# Altium footprint library GDTs_SMD.PcbLib: 1 footprints
Each footprint in its own frame and in the unit in brackets; x right, y up, seen from the top. Pads: shape width x height; smd on the part's side, far side on the other; paste and mask are expansions set on the pad; w line width, h text height; cw(c..) or ccw(c..) is an arc to the next point about the centre after c.
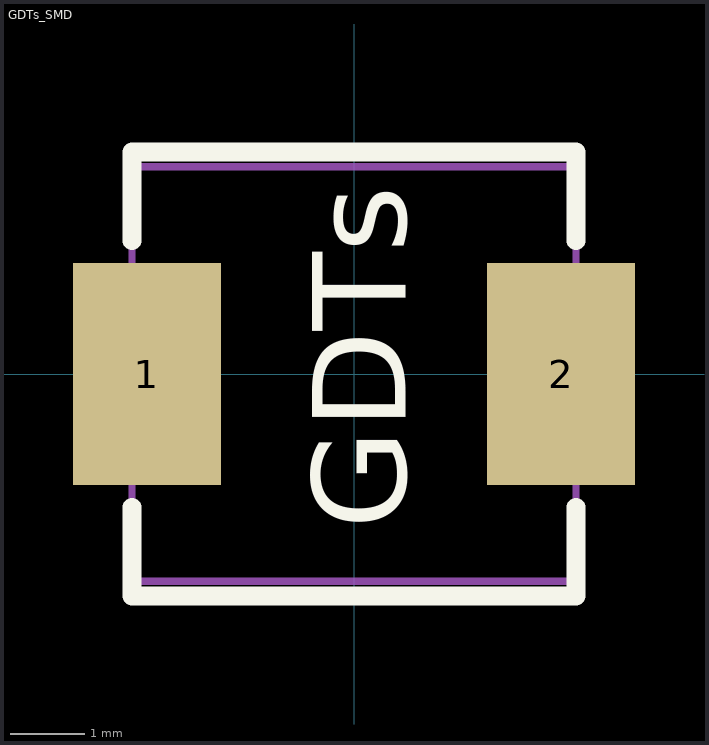
[diagram p0: the footprint, top view; thin cyan lines are the x and y axes]

## GDTs_SMD [mm]
pads (2):
  rect 2x3 smd: 1(-2.8,0) 2(2.8,0)
Top Overlay:
  lines w0.254: -3,-1.8 -3,-3 3,-3 3,-1.8 ; -3,1.8 -3,3 3,3 3,1.8
  text "GDTs" at 0.7,-2.1 h1.27
Mechanical 13:
  lines w0.1: -3,-2.8 3,-2.8 3,2.8 -3,2.8 -3,-2.8